# EAGLE library part ULN2803 (library openag-transistors)
STMicroelectronics - ULN2803A - TRANS 8NPN DARL 50V 0.5A 18DIP Description: Bipolar (BJT) Transistor Array 8 NPN Darlington 50V 500mA 2.25W Through Hole 18-DIP Technical Specifications: Transistor Type: 8 NPN Darlington Max Current (Collector): 500mA Max Voltage (Collector Emitter Breakdown): 50V Vce Saturation (Max) @ Ib, Ic: 1.6V @ 500µA, 350mA DC Current Gain (hFE) (Min) @ Ic, Vce: 1000 @ 350mA, 2V Max Power: 2.25W Operating Temperature: -20°C ~ 150°C Mounting Type: Through Hole Package/Case: 18-DIP (0.300", 7.62mm) Datasheet(s): ULN280xA Datasheet <http://www.st.com/content/ccc/resource/technical/document/datasheet/e4/fa/1c/16/4e/39/49/04/CD00000179.pdf/files/CD00000179.pdf/jcr:content/translations/en.CD00000179.pdf> Vendor(s): Digikey: 497-2356-5-ND <https://www.digikey.com/product-detail/en/stmicroelectronics/ULN2803A/497-2356-5-ND/599591>
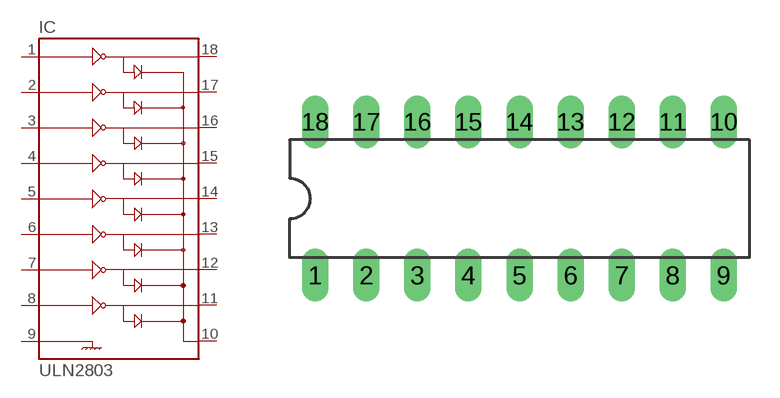
[diagram p0: symbol with the pads of DIL18; footprint DIL18]

Designator prefix IC

## ULN2803DIP (POPULATE: YES; VALUE: ULN2803A; VERIFIED: NO)  [DIL18]
1  1
2  2
3  3
4  4
5  5
6  6
7  7
8  8
9  9
10  10
11  11
12  12
13  13
14  14
15  15
16  16
17  17
18  18

## Footprint DIL18 (pad centres in mm)
Dual In Line Package - 18 Pin Specifications: Pin count: 18 Example device(s): LM391
drill 0.813 long: 1 -10.16,-3.81; 2 -7.62,-3.81; 3 -5.08,-3.81; 4 -2.54,-3.81; 5 0,-3.81; 6 2.54,-3.81; 7 5.08,-3.81; 8 7.62,-3.81; 9 10.16,-3.81; 10 10.16,3.81; 11 7.62,3.81; 12 5.08,3.81; 13 2.54,3.81; 14 0,3.81; 15 -2.54,3.81; 16 -5.08,3.81; 17 -7.62,3.81; 18 -10.16,3.81